# EAGLE library part MIC4826 (library mc48xx)
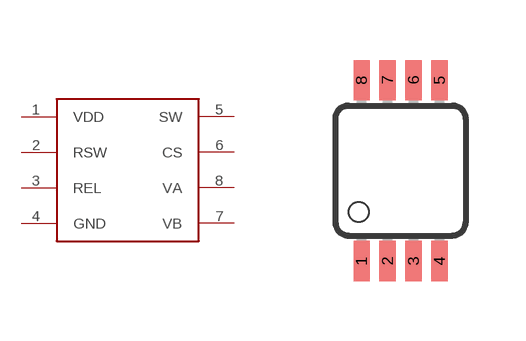
[diagram p1: symbol with the pads of MSOP8; footprint MSOP8]

Designator prefix -

## MIC4826  [MSOP8]
1  VDD  pwr
2  RSW  in
3  REL  in
4  GND  pwr
5  SW
6  CS
7  VB  out
8  VA  out

## Footprint MSOP8 (pad centres in mm)
smd 0.4 x 1: 1 1.564,0.277; 2 2.214,0.277; 3 2.864,0.277; 4 3.514,0.277; 5 3.514,4.802; 6 2.864,4.802; 7 2.214,4.802; 8 1.564,4.802